# EAGLE library part TOP242-250 (library power_integrations)
TOPSwitch-GX uses the same proven topology as TOPSwitch, cost effectively integrating the high voltage power MOSFET, PWM control, fault protection and other control circuitry onto a single CMOS chip. Many new functions are integrated to reduce system cost and improve design flexibility, performance and energy efficiency. Depending on package type, either 1 or 3 additional pins over the TOPSwitch standard DRAIN, SOURCE and CONTROL terminals allow the following functions: line sensing (OV/UV, line feed-forward/DCMAX reduction), accurate externally set current limit, remote ON/OFF, synchronization to an external lower frequency, and frequency selection (132 kHz/66 kHz). All package types provide the following transparent features: Soft-start, 132 kHz switching frequency (automatically reduced at light load), frequency jittering for lower EMI, wider DCMAX, hysteretic thermal shutdown, and larger creepage packages. In addition, all critical parameters (i.e. current limit, frequency, PWM gain) have tighter temperature and absolute tolerances to simplify design and optimize system cost.
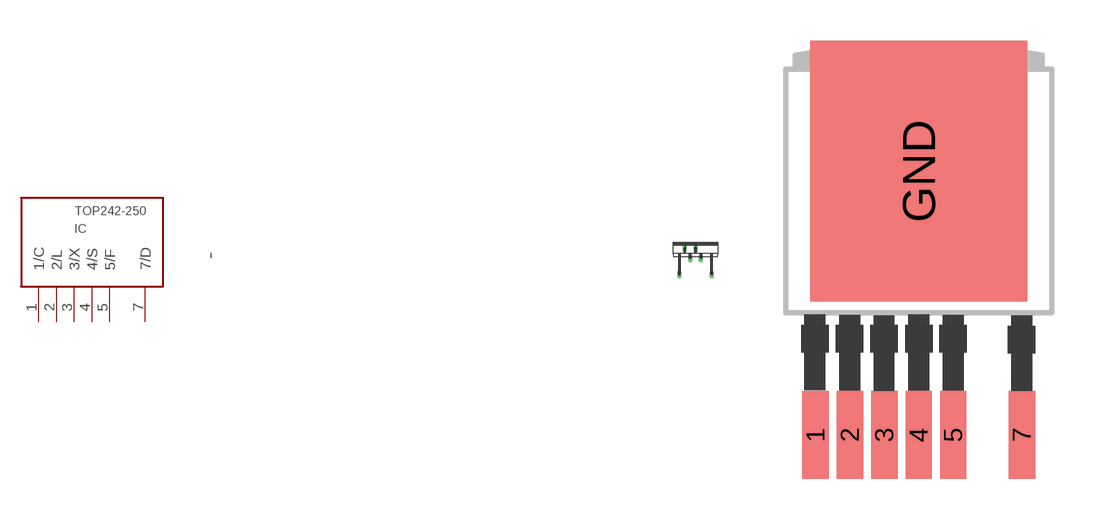
[diagram p23: symbol with the pads of TO-262-7C(F_PACKAGE); footprints TO-262-7C(F_PACKAGE), TO263-7C(R_PACKAGE)]

Designator prefix IC

## TOP242-250  [TO-262-7C(F_PACKAGE)]
1  1/C
2  2/L
3  3/X
4  4/S
5  5/F
7  7/D

## TOP242-250TO263-7C  [TO263-7C(R_PACKAGE)]
Pads as for TO-262-7C(F_PACKAGE)

## TOP242-250TO220-7C  [TO-220-7C(Y_PACKAGE)]
Pads as for TO-262-7C(F_PACKAGE)

## Footprint TO-262-7C(F_PACKAGE) (pad centres in mm)
drill 0.6 pad 1.016 long: 1 -3.81,-5.08; 2 -2.54,1.27; 3 -1.27,-1.27; 4 0,1.27; 5 1.27,-1.27; 7 3.81,-5.08

## Footprint TO263-7C(R_PACKAGE) (pad centres in mm)
Transistor Outline Package P-TO263-5-1 SIEMENS TLE4270
smd 0.97 x 3.25: 1 -3.81,-6.35; 2 -2.54,-6.35; 3 -1.27,-6.35; 4 0,-6.35; 5 1.27,-6.35; 7 3.81,-6.35
smd 8 x 9.65: GND 0,3.4

## Footprint TO-220-7C(Y_PACKAGE) (pad centres in mm)
drill 0.6 pad 1.016 long: 1 -3.81,-5.08; 2 -2.54,1.27; 3 -1.27,-1.27; 4 0,1.27; 5 1.27,-1.27; 7 3.81,-5.08